# EAGLE library part SSM6N58NU (library KwanSystems)
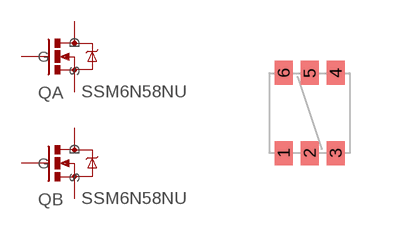
[diagram p35: symbol with the pads of UDFN6; footprint UDFN6]

Designator prefix Q; gates A=MOSFET_NCHANNEL B=MOSFET_NCHANNEL

## SSM6N58NU  [UDFN6]
1  A:S  pas
2  A:G  pas
3  B:D  pas
4  B:S  pas
5  B:G  pas
6  A:D  pas

## Footprint UDFN6 (pad centres in mm)
smd 0.45 x 0.6: 1 -0.65,-1; 2 0,-1; 3 0.65,-1; 4 0.65,1; 5 0,1; 6 -0.65,1